# Altium schematic symbol library pulse-mag.SchLib: 4 symbols
Pins are listed as number, name and electrical type; pins without a type are passive.

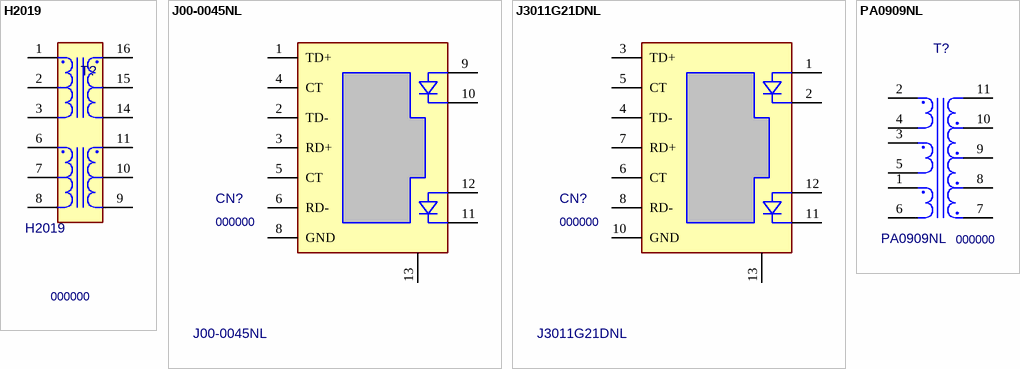
[diagram p0: symbols H2019 to PA0909NL]

## H2019
designator T?, comment 000000  value H2019
Package: SOIC-16; PN: 000000; ExtraInfo: *
footprint TRAFO-SOIC-16 (Ethernet Trafo SOIC 16)
pins: 1, 2, 3, 6, 7, 8, 9, 10, 11, 14, 15, 16

## J00-0045NL
designator CN?, comment 000000  value J00-0045NL
10/100Base-TX surface mount RJ45; Package: PTH; PN: 000000; ExtraInfo: *
footprint MOD-J0 (Modular Jack, Right Angle, Fully Shielded, True SMT)
pins: 1 TD+, 2 TD-, 3 RD+, 4 CT, 5 CT, 6 RD-, 8 GND, 9 A2, 10 K2, 11 K1, 12 A1, 13 SHIELD

## J3011G21DNL
designator CN?, comment 000000  value J3011G21DNL
10/100Base-TX surface mount RJ45; Package: SMT; PN: 000000; ExtraInfo: *
footprint MOD-J3 (Modular Jack, Right Angle, Fully Shielded, True SMT, BLI 13, Cat5)
pins: 1 A2, 2 K2, 3 TD+, 4 TD-, 5 CT, 6 CT, 7 RD+, 8 RD-, 10 GND, 11 K1, 12 A1, 13 SHIELD

## PA0909NL
designator T?, comment 000000  value PA0909NL
250W Planar Transformer; Dig-Key PN: 553-2912-ND; Package: PA09XX; PN: 000000; ExtraInfo: *; Price: 12.92500; MF PN: PA0909NL
footprint PA09XX (PA09 Series Transformer)
pins: 1, 2, 3, 4, 5, 6, 7, 8, 9, 10, 11